# Altium schematic symbol library RF_Misc.SchLib: 14 symbols
Pins are listed as number, name and electrical type; pins without a type are passive.

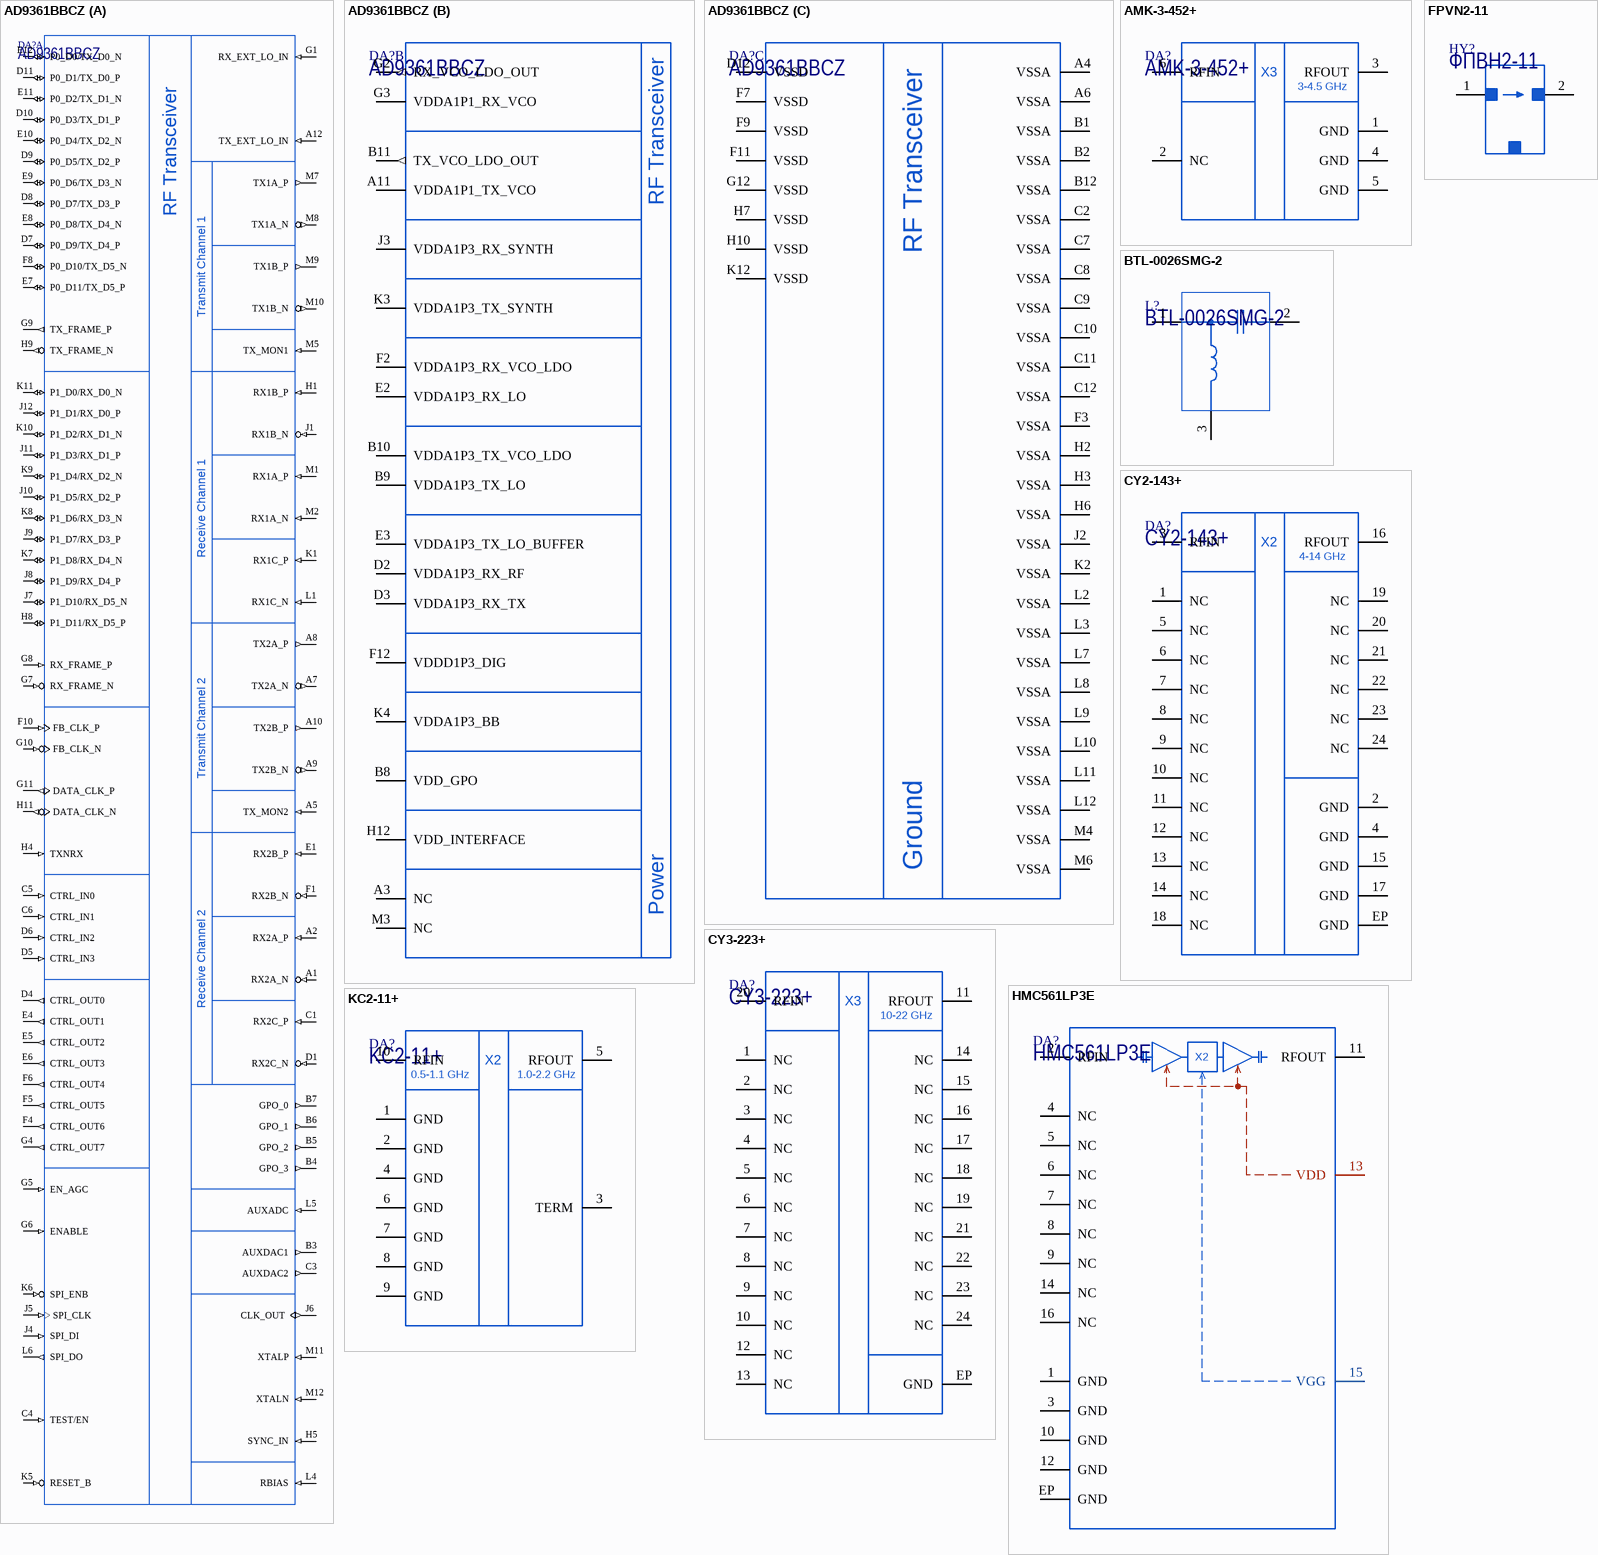
[diagram p0: symbols AD9361BBCZ to KC2-11+]

## AD9361BBCZ
designator DA?
RF Agile Transceiver; Manufacturer: Analog Devices; ItemType: IC; ItemSubType: RF Transceiver; Package: BGA-144; PartNumber: AD9361BBCZ; Mounting: SMD
footprint BGA144(BC-144-7) (BGA, 144-Leads, Body 10.00x10.00mmx1.32mm, Pitch 0.80mm (package option from Analog Devices BC-144-7))
part A pins: A1 RX2A_N (in), A2 RX2A_P (in), A5 TX_MON2 (in), A7 TX2A_N (out), A8 TX2A_P (out), A9 TX2B_N (out), A10 TX2B_P (out), A12 TX_EXT_LO_IN (in), B3 AUXDAC1 (out), B4 GPO_3 (out), B5 GPO_2 (out), B6 GPO_1 (out), B7 GPO_0 (out), C1 RX2C_P (in), C3 AUXDAC2 (out), C4 TEST/EN (in), C5 CTRL_IN0 (in), C6 CTRL_IN1 (in), D1 RX2C_N (in), D4 CTRL_OUT0 (out), D5 CTRL_IN3 (in), D6 CTRL_IN2 (in), D7 P0_D9/TX_D4_P (io), D8 P0_D7/TX_D3_P (io), D9 P0_D5/TX_D2_P (io), D10 P0_D3/TX_D1_P (io), D11 P0_D1/TX_D0_P (io), E1 RX2B_P (in), E4 CTRL_OUT1 (out), E5 CTRL_OUT2 (out), E6 CTRL_OUT3 (out), E7 P0_D11/TX_D5_P (io), E8 P0_D8/TX_D4_N (io), E9 P0_D6/TX_D3_N (io), E10 P0_D4/TX_D2_N (io), E11 P0_D2/TX_D1_N (io), E12 P0_D0/TX_D0_N (io), F1 RX2B_N (in), F4 CTRL_OUT6 (out), F5 CTRL_OUT5 (out), F6 CTRL_OUT4 (out), F8 P0_D10/TX_D5_N (io), F10 FB_CLK_P (in), G1 RX_EXT_LO_IN (in), G4 CTRL_OUT7 (out), G5 EN_AGC (in), G6 ENABLE (in), G7 RX_FRAME_N (in), G8 RX_FRAME_P (in), G9 TX_FRAME_P (out), G10 FB_CLK_N (in), G11 DATA_CLK_P (out), H1 RX1B_P (in), H4 TXNRX (in), H5 SYNC_IN (in), H8 P1_D11/RX_D5_P (io), H9 TX_FRAME_N (out), H11 DATA_CLK_N (out), J1 RX1B_N (in), J4 SPI_DI (in), J5 SPI_CLK (in), J6 CLK_OUT (out), J7 P1_D10/RX_D5_N (io), J8 P1_D9/RX_D4_P (io), J9 P1_D7/RX_D3_P (io), J10 P1_D5/RX_D2_P (io), J11 P1_D3/RX_D1_P (io), J12 P1_D1/RX_D0_P (io), K1 RX1C_P (in), K5 RESET_B (in), K6 SPI_ENB (in), K7 P1_D8/RX_D4_N (io), K8 P1_D6/RX_D3_N (io), K9 P1_D4/RX_D2_N (io), K10 P1_D2/RX_D1_N (io), K11 P1_D0/RX_D0_N (io), L1 RX1C_N (in), L4 RBIAS (in), L5 AUXADC (in), L6 SPI_DO (out), M1 RX1A_P (in), M2 RX1A_N (in), M5 TX_MON1 (in), M7 TX1A_P (out), M8 TX1A_N (out), M9 TX1B_P (out), M10 TX1B_N (out), M11 XTALP (in), M12 XTALN (in)
part B pins: A3 NC (hiz), A11 VDDA1P1_TX_VCO (power), B8 VDD_GPO (power), B9 VDDA1P3_TX_LO (power), B10 VDDA1P3_TX_VCO_LDO (power), B11 TX_VCO_LDO_OUT (out), D2 VDDA1P3_RX_RF (power), D3 VDDA1P3_RX_TX (power), E2 VDDA1P3_RX_LO (power), E3 VDDA1P3_TX_LO_BUFFER (power), F2 VDDA1P3_RX_VCO_LDO (power), F12 VDDD1P3_DIG (power), G2 RX_VCO_LDO_OUT (out), G3 VDDA1P1_RX_VCO (power), H12 VDD_INTERFACE (power), J3 VDDA1P3_RX_SYNTH (power), K3 VDDA1P3_TX_SYNTH (power), K4 VDDA1P3_BB (power), M3 NC (hiz)
part C pins: A4 VSSA, A6 VSSA, B1 VSSA, B2 VSSA, B12 VSSA, C2 VSSA, C7 VSSA, C8 VSSA, C9 VSSA, C10 VSSA, C11 VSSA, C12 VSSA, D12 VSSD, F3 VSSA, F7 VSSD, F9 VSSD, F11 VSSD, G12 VSSD, H2 VSSA, H3 VSSA, H6 VSSA, H7 VSSD, H10 VSSD, J2 VSSA, K2 VSSA, K12 VSSD, L2 VSSA, L3 VSSA, L7 VSSA, L8 VSSA, L9 VSSA, L10 VSSA, L11 VSSA, L12 VSSA, M4 VSSA, M6 VSSA
part A text: Transmit Channel 1; Receive Channel 1; Transmit Channel 2; Receive Channel 2
part B text: Power
part C text: Ground

## AMK-3-452+
designator DA?
x3 Frequency Multiplier, Output 3 GHz to 4.5 GHz; Manufacturer: Minicircuits; ItemType: IC; ItemSubType: x3 Multiplier; Package: CD636; PartNumber: AMK-3-452+; Mounting: SMD
footprint CD636 (Minicircuits CD636 case style)
pins: 1 GND, 2 NC, 3 RFOUT, 4 GND, 5 GND, 6 RFIN
text: X3; 3-4.5 GHz

## BTL-0026SMG-2
designator L?
Wideband 500 kHz to 26 GHz Bias-Tee; Manufacturer: Marki Microwave; ItemType: IC; PartNumber: BTL-0026SMG-2; ItemSubType: Bias-Tee; Mounting: SMD
footprint BTL-0026SMG-2 (Surface Mount Bias Tee, 500 kHz to 26 GHz bandwidth)
pins: 1 RFDC, 2 RF, 3 DC

## CY2-143+
designator DA?
x2 Frequency Multiplier, Output 4 GHz to 14 GHz; Manufacturer: Minicircuits; ItemType: IC; ItemSubType: x2 Multiplier; Marking: CY2143; Package: DG1847; PartNumber: CY2-143+; Mounting: SMD
footprint DG1847 (Minicircuits DG1847 case style)
pins: 1 NC, 2 GND, 3 RFIN, 4 GND, 5 NC, 6 NC, 7 NC, 8 NC, 9 NC, 10 NC, 11 NC, 12 NC, 13 NC, 14 NC, 15 GND, 16 RFOUT, 17 GND, 18 NC, 19 NC, 20 NC, 21 NC, 22 NC, 23 NC, 24 NC, EP GND
text: X2; 4-14 GHz

## CY3-223+
designator DA?
x3 Frequency Multiplier, Output 10 GHz to 22 GHz; Manufacturer: Minicircuits; ItemType: IC; ItemSubType: x3 Multiplier; Marking: Y3223; Package: DG1847; PartNumber: CY3-223+; Mounting: SMD
footprint DG1847 (Minicircuits DG1847 case style)
pins: 1 NC, 2 NC, 3 NC, 4 NC, 5 NC, 6 NC, 7 NC, 8 NC, 9 NC, 10 NC, 11 RFOUT, 12 NC, 13 NC, 14 NC, 15 NC, 16 NC, 17 NC, 18 NC, 19 NC, 20 RFIN, 21 NC, 22 NC, 23 NC, 24 NC, EP GND
text: X3; 10-22 GHz

## FPVN2-11
designator HY?, comment ФПВН2-11
RF Protection Circuit 5.7-7.1 GHz; Manufacturer: Завод "Магнетон"; PartNumber: ФПВН2-11; ItemType: RF; ItemSubType: Protection; Mounting: NONE
footprint FPVN2-11
pins: 1 IN, 2 OUT

## HMC561LP3E
designator DA?
x2 Active Frequency Multiplier, 8 - 21 Ghz Output; Manufacturer: Analog Devices; ItemType: IC; ItemSubType: x2 Multiplier; Marking: H561; Package: QFN-16; PartNumber: HMC561LP3E; Mounting: SMD
footprint QFN16_HMC561 (QFN 16-leads 4mm x 4mm, 0.5mm pitch)
pins: 1 GND, 2 RFIN, 3 GND, 4 NC, 5 NC, 6 NC, 7 NC, 8 NC, 9 NC, 10 GND, 11 RFOUT, 12 GND, 13 VDD, 14 NC, 15 VGG, 16 NC, EP GND
text: X2

## KC2-11+
designator DA?
x2 Frequency Multiplier, Output 1000 to 2200 MHz; Manufacturer: Minicircuits; ItemType: IC; ItemSubType: x2 Multiplier; Package: DZ885; PartNumber: KC2-11+; Mounting: SMD
footprint DZ885 (Minicircuits DZ885 case style)
pins: 1 GND, 2 GND, 3 TERM, 4 GND, 5 RFOUT, 6 GND, 7 GND, 8 GND, 9 GND, 10 RFIN
text: X2; 0.5-1.1 GHz; 1.0-2.2 GHz

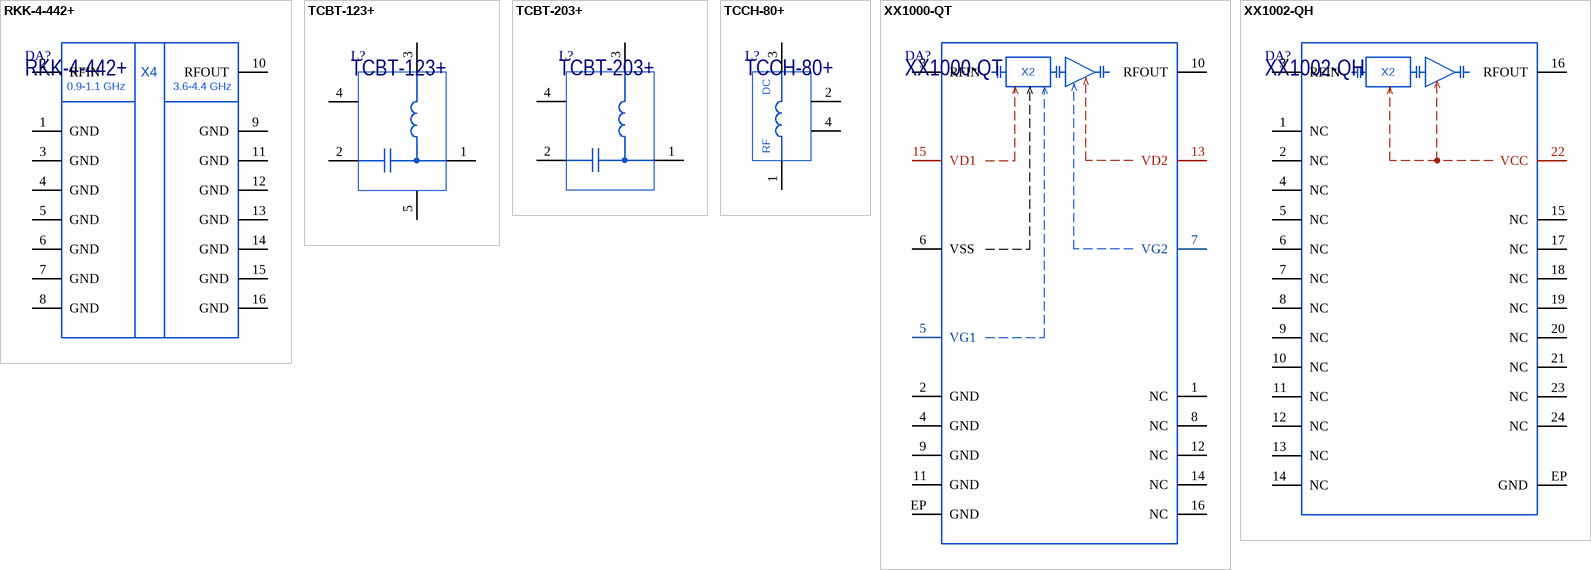
[diagram p1: symbols RKK-4-442+ to XX1002-QH]

## RKK-4-442+
designator DA?
x4 Frequency Multiplier, Output 3600 to 4400 MHz; Manufacturer: Minicircuits; ItemType: IC; ItemSubType: x4 Multiplier; Package: CK1246; PartNumber: RKK-4-442+; Mounting: SMD
footprint CK1246 (Minicircuits CK1246 case style)
pins: 1 GND, 2 RFIN, 3 GND, 4 GND, 5 GND, 6 GND, 7 GND, 8 GND, 9 GND, 10 RFOUT, 11 GND, 12 GND, 13 GND, 14 GND, 15 GND, 16 GND
text: X4; 0.9-1.1 GHz; 3.6-4.4 GHz

## TCBT-123+
designator L?
Wideband 10 MHz to 12 GHz Bias-Tee; Manufacturer: Minicircuits; ItemType: IC; Package: GU1414; PartNumber: TCBT-123+; ItemSubType: Bias-Tee; Mounting: SMD
footprint GU1414 (Minicircuits GU1414 case style)
pins: 1 RFDC, 2 RF, 3 DC, 4 NC, 5 GND

## TCBT-203+
designator L?
Wideband 10 MHz to 20 GHz Bias-Tee; Manufacturer: Minicircuits; ItemType: IC; Package: GU1414-4; PartNumber: TCBT-203+; ItemSubType: Bias-Tee; Mounting: SMD
footprint GU1414-4
pins: 1 RFDC, 2 RF, 3 DC, 4 NC

## TCCH-80+
designator L?
Very Wideband RF Choke 50 to 8200 MHz; Manufacturer: Minicircuits; ItemType: IC; ItemSubType: Bias-Tee; Package: GU1604; PartNumber: TCCH-80+; Mounting: SMD
footprint GU1604 (Minicircuits GU1604 case style)
pins: 1 RF, 2 NC, 3 DC, 4 NC

## XX1000-QT
designator DA?
Active Doubler 7.5 - 22.5 / 15.0 - 45.0 GHz; Manufacturer: Macom; ItemType: IC; ItemSubType: x2 Multiplier; Package: QFN-16; PartNumber: XX1000-QT; Mounting: SMD
footprint QFN16_XX1000QT
footprint QFN16_XX1000QT_0.305 (QFN16 3mm x 3mm, 0.5mm pitch)
pins: 1 NC, 2 GND, 3 RFIN, 4 GND, 5 VG1, 6 VSS, 7 VG2, 8 NC, 9 GND, 10 RFOUT, 11 GND, 12 NC, 13 VD2, 14 NC, 15 VD1, 16 NC, EP GND
text: X2

## XX1002-QH
designator DA?
Active Doubler 2.5 - 6.0 / 5.0 - 12.0 GHz; Manufacturer: Macom; ItemType: IC; ItemSubType: x2 Multiplier; Package: QFN-24; PartNumber: XX1002-QH; Mounting: SMD
footprint PQFN24_XX1002 (QFN, 24-Leads, Body 4x4mm, Pitch 0.50mm, Thermal Pad 2.6x2.6mm)
pins: 1 NC, 2 NC, 3 RFIN, 4 NC, 5 NC, 6 NC, 7 NC, 8 NC, 9 NC, 10 NC, 11 NC, 12 NC, 13 NC, 14 NC, 15 NC, 16 RFOUT, 17 NC, 18 NC, 19 NC, 20 NC, 21 NC, 22 VCC, 23 NC, 24 NC, EP GND
text: X2